# EAGLE library part SN74LS173ANG4 (library ICs)
IC D-TYPE POS TRG SNGL 16DIP Source: Datasheet <http://www.ti.com/lit/ds/symlink/sn74ls173a.pdf>
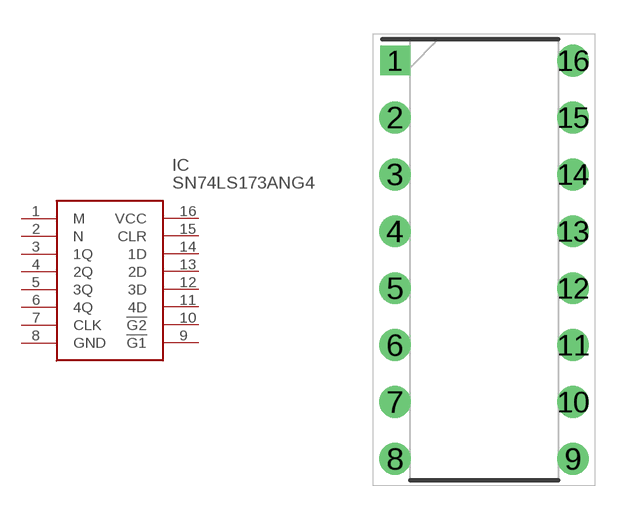
[diagram p9: symbol with the pads of DIP794W53P254L1930H508Q16N; footprint DIP794W53P254L1930H508Q16N]

Designator prefix IC

## SN74LS173ANG4 (DESCRIPTION: IC D-TYPE POS TRG SNGL 16DIP; HEIGHT: 5.08mm; MANUFACTURER_NAME: Texas Instruments; MANUFACTURER_PART_NUMBER: SN74LS173ANG4)  [DIP794W53P254L1930H508Q16N]
1  M
2  N
3  1Q
4  2Q
5  3Q
6  4Q
7  CLK
8  GND
9  !G1
10  !G2
11  4D
12  3D
13  2D
14  1D
15  CLR
16  VCC

## Footprint DIP794W53P254L1930H508Q16N (pad centres in mm)
N (R-PDIP-T16)
drill 0.8 pad 1.27 square: 1 -3.97,8.89
drill 0.8 pad 1.422: 2 -3.97,6.35; 3 -3.97,3.81; 4 -3.97,1.27; 5 -3.97,-1.27; 6 -3.97,-3.81; 7 -3.97,-6.35; 8 -3.97,-8.89; 9 3.97,-8.89; 10 3.97,-6.35; 11 3.97,-3.81; 12 3.97,-1.27; 13 3.97,1.27; 14 3.97,3.81; 15 3.97,6.35; 16 3.97,8.89